# Altium footprint library Optical.PcbLib: 8 footprints
Each footprint in its own frame and in the unit in brackets; x right, y up, seen from the top. Pads: shape width x height; smd on the part's side, far side on the other; paste and mask are expansions set on the pad; w line width, h text height; cw(c..) or ccw(c..) is an arc to the next point about the centre after c.
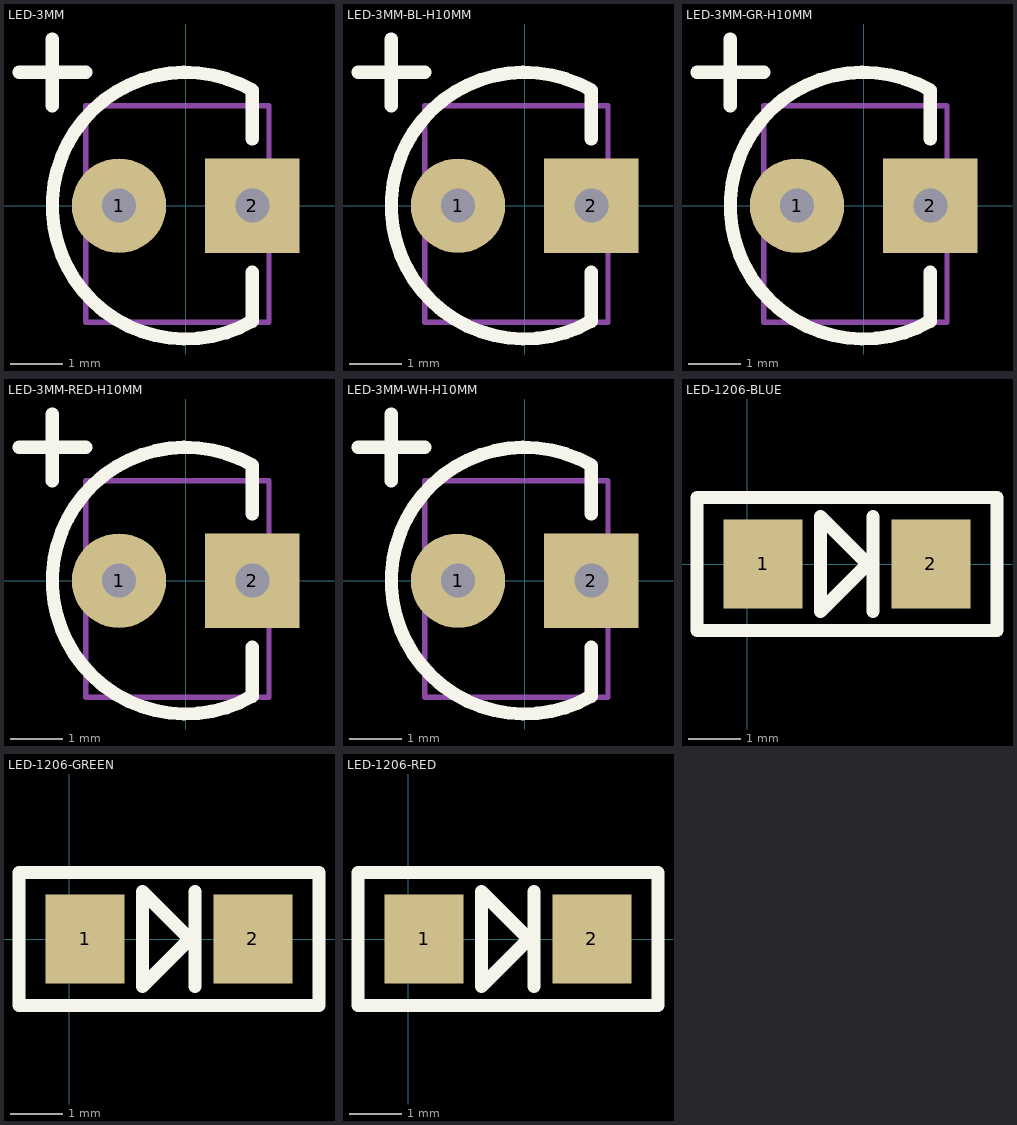
[diagram p0: the footprints below, top view; thin cyan lines are the x and y axes]

## LED-3MM [mm]
pads (2):
  round 1.8 hole 0.65: 1(-1.27,0)
  rect 1.8x1.8 hole 0.65: 2(1.27,0)
Top Overlay:
  lines w0.254: -3.175,2.54 -1.905,2.54 ; -2.54,1.905 -2.54,3.175 ; 1.27,-1.27 1.27,-2.2 cw(c0,0) 1.27,2.2 1.27,1.27
Top Assy:
  lines w0.1: -1.905,-2.222 1.587,-2.222 1.587,1.905 -1.905,1.905 -1.905,-2.222
Border:
  lines w0.1: -1.905,-2.222 -1.905,1.905 1.587,1.905 1.587,-2.222 -1.905,-2.222
3D body "Optical-LED_3MM-3.STEP": height 5.8, standoff -4.5, extent -1.9,-2.025 1.6,1.77
3D body: height 0.25, standoff 0, extent 0,1.27 0,1.27
3D body: height 0.25, standoff 0, extent 1.27,1.27 1.27,1.27

## LED-3MM-BL-H10MM [mm]
pads (2):
  round 1.8 hole 0.65: 1(-1.27,0)
  rect 1.8x1.8 hole 0.65: 2(1.27,0)
Top Overlay:
  lines w0.254: -3.175,2.54 -1.905,2.54 ; -2.54,1.905 -2.54,3.175 ; 1.27,-1.27 1.27,-2.2 cw(c0,0) 1.27,2.2 1.27,1.27
Top Assy:
  lines w0.1: -1.905,-2.222 1.587,-2.222 1.587,1.905 -1.905,1.905 -1.905,-2.222
Border:
  lines w0.1: -1.905,-2.222 -1.905,1.905 1.587,1.905 1.587,-2.222 -1.905,-2.222
3D body "Led_3mm_Blue_h10mm.X_T": height 15.8, standoff -3.16, extent -1.9,-2.028 1.6,1.773
3D body: height 0.25, standoff 0, extent 0,1.27 0,1.27
3D body: height 0.25, standoff 0, extent 1.27,1.27 1.27,1.27

## LED-3MM-GR-H10MM [mm]
pads (2):
  round 1.8 hole 0.65: 1(-1.27,0)
  rect 1.8x1.8 hole 0.65: 2(1.27,0)
Top Overlay:
  lines w0.254: -3.175,2.54 -1.905,2.54 ; -2.54,1.905 -2.54,3.175 ; 1.27,-1.27 1.27,-2.2 cw(c0,0) 1.27,2.2 1.27,1.27
Top Assy:
  lines w0.1: -1.905,-2.222 1.587,-2.222 1.587,1.905 -1.905,1.905 -1.905,-2.222
Border:
  lines w0.1: -1.905,-2.222 -1.905,1.905 1.587,1.905 1.587,-2.222 -1.905,-2.222
3D body "Led_3mm_Green_h10mm.X_T": height 15.8, standoff -3.16, extent -1.9,-2.028 1.6,1.773
3D body: height 0.25, standoff 0, extent 0,1.27 0,1.27
3D body: height 0.25, standoff 0, extent 1.27,1.27 1.27,1.27

## LED-3MM-RED-H10MM [mm]
pads (2):
  round 1.8 hole 0.65: 1(-1.27,0)
  rect 1.8x1.8 hole 0.65: 2(1.27,0)
Top Overlay:
  lines w0.254: -3.175,2.54 -1.905,2.54 ; -2.54,1.905 -2.54,3.175 ; 1.27,-1.27 1.27,-2.2 cw(c0,0) 1.27,2.2 1.27,1.27
Top Assy:
  lines w0.1: -1.905,-2.222 1.587,-2.222 1.587,1.905 -1.905,1.905 -1.905,-2.222
Border:
  lines w0.1: -1.905,-2.222 -1.905,1.905 1.587,1.905 1.587,-2.222 -1.905,-2.222
3D body "Led_3mm_Red_h10mm.X_T": height 15.8, standoff -3.16, extent -1.9,-2.028 1.6,1.773
3D body: height 0.25, standoff 0, extent 0,1.27 0,1.27
3D body: height 0.25, standoff 0, extent 1.27,1.27 1.27,1.27

## LED-3MM-WH-H10MM [mm]
pads (2):
  round 1.8 hole 0.65: 1(-1.27,0)
  rect 1.8x1.8 hole 0.65: 2(1.27,0)
Top Overlay:
  lines w0.254: -3.175,2.54 -1.905,2.54 ; -2.54,1.905 -2.54,3.175 ; 1.27,-1.27 1.27,-2.2 cw(c0,0) 1.27,2.2 1.27,1.27
Top Assy:
  lines w0.1: -1.905,-2.222 1.587,-2.222 1.587,1.905 -1.905,1.905 -1.905,-2.222
Border:
  lines w0.1: -1.905,-2.222 -1.905,1.905 1.587,1.905 1.587,-2.222 -1.905,-2.222
3D body "Led_3mm_White_h10mm.X_T": height 15.8, standoff -3.16, extent -1.9,-2.028 1.6,1.773
3D body: height 0.25, standoff 0, extent 0,1.27 0,1.27
3D body: height 0.25, standoff 0, extent 1.27,1.27 1.27,1.27

## LED-1206-BLUE [mm]
pads (2):
  rect 1.5x1.7 smd: 1(0.305,0) 2(3.505,0)
Top Overlay:
  lines w0.25: -0.953,-1.27 4.763,-1.27 4.763,1.27 -0.953,1.27 -0.953,-1.27
  lines w0.254: 2.4,-0.9 2.4,0.9 ; 1.4,-0.9 1.4,0.9 2.3,0 1.4,-0.9
3D body "User Library-led_1206.X_B": height 1.1, standoff 0, extent 0.295,-0.8 3.515,0.8

## LED-1206-GREEN [mm]
pads (2):
  rect 1.5x1.7 smd: 1(0.305,0) 2(3.505,0)
Top Overlay:
  lines w0.25: -0.953,-1.27 -0.953,1.27 4.763,1.27 4.763,-1.27 -0.953,-1.27
  lines w0.254: 2.4,-0.9 2.4,0.9 ; 1.4,-0.9 2.3,0 1.4,0.9 1.4,-0.9
3D body "User Library-led_1206.X_B": height 1.1, standoff 0, extent 0.295,-0.8 3.515,0.8

## LED-1206-RED [mm]
pads (2):
  rect 1.5x1.7 smd: 1(0.305,0) 2(3.505,0)
Top Overlay:
  lines w0.25: -0.953,-1.27 4.763,-1.27 4.763,1.27 -0.953,1.27 -0.953,-1.27
  lines w0.254: 2.4,-0.9 2.4,0.9 ; 1.4,-0.9 1.4,0.9 2.3,0 1.4,-0.9
3D body "User Library-led_1206.X_B": height 1.1, standoff 0, extent 0.295,-0.8 3.515,0.8